# Altium footprint library TRANS_ETH.PcbLib: 7 footprints
Each footprint in its own frame and in the unit in brackets; x right, y up, seen from the top. Pads: shape width x height; smd on the part's side, far side on the other; paste and mask are expansions set on the pad; w line width, h text height; cw(c..) or ccw(c..) is an arc to the next point about the centre after c.
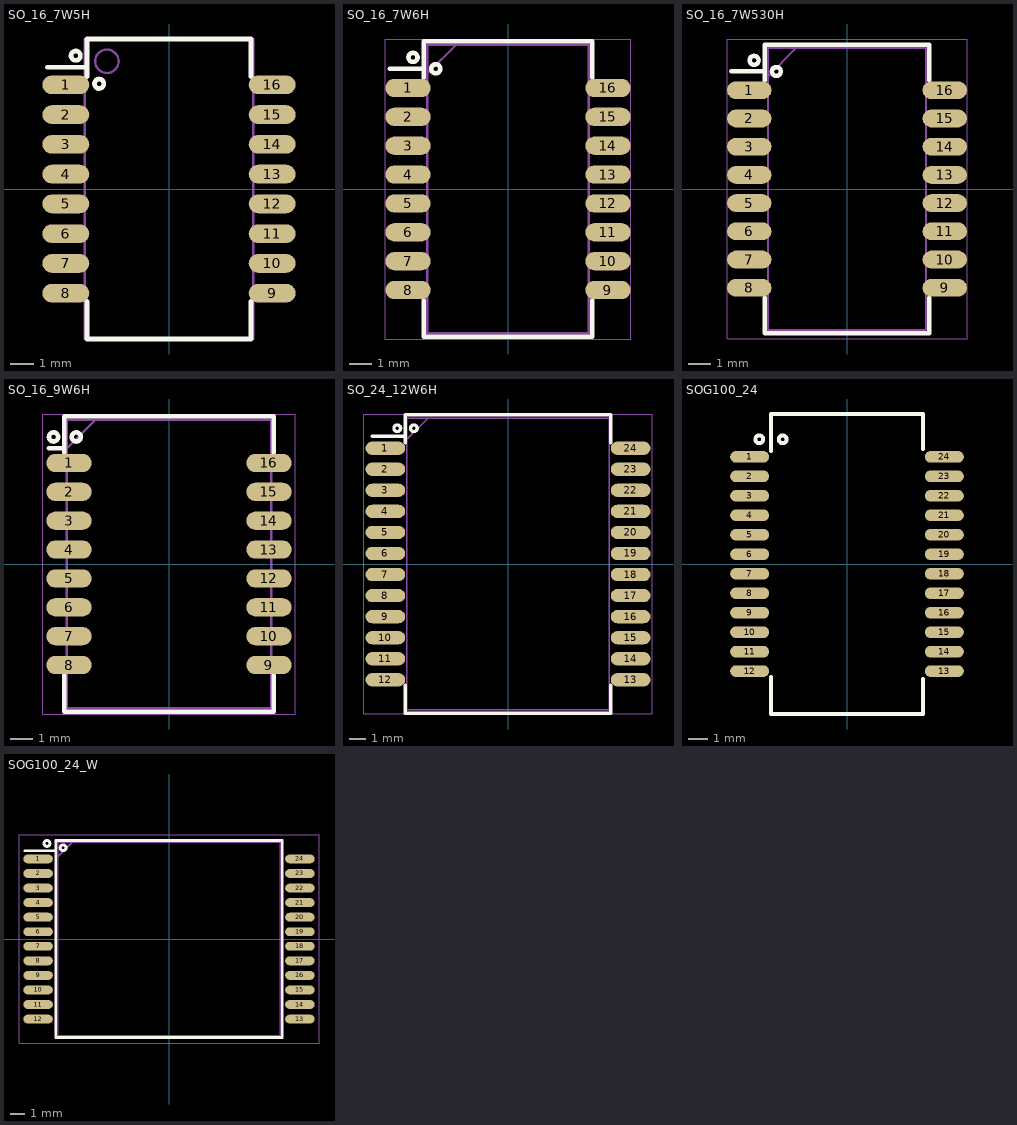
[diagram p0: the footprints below, top view; thin cyan lines are the x and y axes]

## SO_16_7W5H [mm] "16pinsoic (HALO)  pitch: 1.27mm, 12.7X7.1X5mm"
height 5.1
pads (16):
  oval 2x0.8 smd mask+0.1: 1(-4.4,4.445) 2(-4.4,3.175) 3(-4.4,1.905) 4(-4.4,0.635) 5(-4.4,-0.635) 6(-4.4,-1.905) 7(-4.4,-3.175) 8(-4.4,-4.445) 9(4.4,-4.445) 10(4.4,-3.175) 11(4.4,-1.905) 12(4.4,-0.635) 13(4.4,0.635) 14(4.4,1.905) 15(4.4,3.175) 16(4.4,4.445)
Top Overlay:
  circle w0.2: c-3.98,5.69 r0.2
  circle w0.2: c-2.98,4.49 r0.2
  lines w0.2: -5.2,5.2 -3.5,5.2 ; -3.5,-4.8 -3.5,-6.4 3.5,-6.4 3.5,-4.8 ; -3.5,4.8 -3.5,6.4 3.5,6.4 3.5,4.8
Mechanical 13:
  circle w0.1: c-2.65,5.45 r0.5
  lines w0.1: -3.6,-6.4 3.6,-6.4 3.6,6.4 -3.6,6.4 -3.6,-6.4
3D body "User Library-Halo_SMD10base-T Module.step": height 5.04, standoff 0, extent -4.754,-6.35 4.763,6.35

## SO_16_7W6H [mm] "Transformer signal, pitch: 1.27mm, 12.7X7.2X6mm"
height 6
pads (16):
  oval 2x0.8 smd mask+0.1: 1(-4.4,4.445) 2(-4.4,3.175) 3(-4.4,1.905) 4(-4.4,0.635) 5(-4.4,-0.635) 6(-4.4,-1.905) 7(-4.4,-3.175) 8(-4.4,-4.445) 9(4.4,-4.445) 10(4.4,-3.175) 11(4.4,-1.905) 12(4.4,-0.635) 13(4.4,0.635) 14(4.4,1.905) 15(4.4,3.175) 16(4.4,4.445)
Top Overlay:
  circle w0.2: c-4.18,5.79 r0.2
  circle w0.2: c-3.18,5.29 r0.2
  lines w0.2: -5.2,5.3 -3.7,5.3 ; -3.7,-4.9 -3.7,-6.5 3.7,-6.5 3.7,-4.9 ; -3.7,4.9 -3.7,6.5 3.7,6.5 3.7,4.9
Mechanical 15:
  lines w0.1: -3.55,5.08 -2.28,6.35 ; -3.55,-6.35 3.55,-6.35 3.55,6.35 -3.55,6.35 -3.55,-6.35
Mechanical 20:
  lines w0.05: -5.4,-6.6 5.4,-6.6 5.4,6.6 -5.4,6.6 -5.4,-6.6
3D body "HX2326NL_3D.STEP": height 5.91, standoff -0.04, extent -4.762,-6.35 4.763,6.35

## SO_16_7W530H [mm] "Transformer signal, pitch: 1.27mm, 12.7X7X5.3mm"
height 5.3
pads (16):
  oval 2x0.8 smd mask+0.1: 1(-4.4,4.445) 2(-4.4,3.175) 3(-4.4,1.905) 4(-4.4,0.635) 5(-4.4,-0.635) 6(-4.4,-1.905) 7(-4.4,-3.175) 8(-4.4,-4.445) 9(4.4,-4.445) 10(4.4,-3.175) 11(4.4,-1.905) 12(4.4,-0.635) 13(4.4,0.635) 14(4.4,1.905) 15(4.4,3.175) 16(4.4,4.445)
Top Overlay:
  circle w0.2: c-4.18,5.79 r0.2
  circle w0.2: c-3.18,5.29 r0.2
  lines w0.2: -5.2,5.3 -3.7,5.3 ; -3.7,-4.9 -3.7,-6.5 3.7,-6.5 3.7,-4.9 ; -3.7,4.9 -3.7,6.5 3.7,6.5 3.7,4.9
Mechanical 15:
  lines w0.1: -3.55,5.08 -2.28,6.35 ; -3.55,-6.35 3.55,-6.35 3.55,6.35 -3.55,6.35 -3.55,-6.35
Mechanical 20:
  lines w0.05: -5.4,-6.75 5.4,-6.75 5.4,6.75 -5.4,6.75 -5.4,-6.75
3D body "749010013.stp": height 5.3, standoff 0, extent -4.7,-6.5 4.7,6.5

## SO_16_9W6H [mm] "Transformer signal, pitch: 1.27mm, 12.7X9X6mm"
height 6
pads (16):
  oval 2x0.8 smd mask+0.1: 1(-4.4,4.445) 2(-4.4,3.175) 3(-4.4,1.905) 4(-4.4,0.635) 5(-4.4,-0.635) 6(-4.4,-1.905) 7(-4.4,-3.175) 8(-4.4,-4.445) 9(4.4,-4.445) 10(4.4,-3.175) 11(4.4,-1.905) 12(4.4,-0.635) 13(4.4,0.635) 14(4.4,1.905) 15(4.4,3.175) 16(4.4,4.445)
Top Overlay:
  circle w0.2: c-5.08,5.59 r0.2
  circle w0.2: c-4.08,5.59 r0.2
  lines w0.2: -5.3,5.1 -4.6,5.1 ; -4.6,-4.9 -4.6,-6.5 4.6,-6.5 4.6,-4.9 ; -4.6,4.9 -4.6,6.5 4.6,6.5 4.6,4.9
Mechanical 15:
  lines w0.1: -4.5,5.08 -3.23,6.35 ; -4.5,-6.35 -4.5,6.35 4.5,6.35 4.5,-6.35 -4.5,-6.35
Mechanical 20:
  lines w0.05: -5.55,-6.6 -5.55,6.6 5.55,6.6 5.55,-6.6 -5.55,-6.6
3D body "HX2326FNL_3D.STEP": height 5.97, standoff -0.02, extent -4.825,-6.35 4.825,6.35

## SO_24_12W6H [mm] "Transformer signal, pitch: 1.27mm, 17.6X12.2X6mm"
height 6
pads (24):
  oval 2.4x0.8 smd mask+0.1: 1(-7.4,6.985) 2(-7.4,5.715) 3(-7.4,4.445) 4(-7.4,3.175) 5(-7.4,1.905) 6(-7.4,0.635) 7(-7.4,-0.635) 8(-7.4,-1.905) 9(-7.4,-3.175) 10(-7.4,-4.445) 11(-7.4,-5.715) 12(-7.4,-6.985) 13(7.4,-6.985) 14(7.4,-5.715) 15(7.4,-4.445) 16(7.4,-3.175) 17(7.4,-1.905) 18(7.4,-0.635) 19(7.4,0.635) 20(7.4,1.905) 21(7.4,3.175) 22(7.4,4.445) 23(7.4,5.715) 24(7.4,6.985)
Top Overlay:
  circle w0.2: c-6.68,8.19 r0.2
  circle w0.2: c-5.68,8.19 r0.2
  lines w0.2: -8.2,7.7 -6.3,7.7 ; -6.2,-7.3 -6.2,-9 6.2,-9 6.2,-7.3 ; -6.2,7.3 -6.2,9 6.2,9 6.2,7.3
Mechanical 15:
  lines w0.1: -6.1,7.518 -4.83,8.788 ; -6.1,-8.788 6.1,-8.788 6.1,8.788 -6.1,8.788 -6.1,-8.788
Mechanical 20:
  lines w0.05: -8.7,-9.05 8.7,-9.05 8.7,9.05 -8.7,9.05 -8.7,-9.05
3D body "SM51589PEL.stp": height 6, standoff 0, extent -8,-8.787 8,8.788

## SOG100_24 [mm] "ETHERNET TRANSFORMER, 15.24X10.2mm, 1mm pitch,HX5084NL"
pads (24):
  oval 2x0.6 smd mask+0.075: 1(-5,5.5) 2(-5,4.5) 3(-5,3.5) 4(-5,2.5) 5(-5,1.5) 6(-5,0.5) 7(-5,-0.5) 8(-5,-1.5) 9(-5,-2.5) 10(-5,-3.5) 11(-5,-4.5) 12(-5,-5.5) 13(5,-5.5) 14(5,-4.5) 15(5,-3.5) 16(5,-2.5) 17(5,-1.5) 18(5,-0.5) 19(5,0.5) 20(5,1.5) 21(5,2.5) 22(5,3.5) 23(5,4.5) 24(5,5.5)
Top Overlay:
  circle w0.2: c-3.3,6.4 r0.2
  circle w0.2: c-4.5,6.4 r0.2
  lines w0.2: -3.9,-5.8 -3.9,-7.7 3.9,-7.7 3.9,-5.9 ; -3.9,5.8 -3.9,7.7 3.9,7.7 3.9,5.9
3D body "HX5084NL_3D.STEP": height 4.14, standoff 0, extent -5.26,-7.555 5.3,7.555

## SOG100_24_W [mm] "Transformer signal, pitch: 1.27mm, 13.2X15.2X6mm"
height 6
pads (24):
  oval 2x0.6 smd mask+0.1: 1(-8.9,5.445) 2(-8.9,4.455) 3(-8.9,3.465) 4(-8.9,2.475) 5(-8.9,1.485) 6(-8.9,0.495) 7(-8.9,-0.495) 8(-8.9,-1.485) 9(-8.9,-2.475) 10(-8.9,-3.465) 11(-8.9,-4.455) 12(-8.9,-5.445) 13(8.9,-5.445) 14(8.9,-4.455) 15(8.9,-3.465) 16(8.9,-2.475) 17(8.9,-1.485) 18(8.9,-0.495) 19(8.9,0.495) 20(8.9,1.485) 21(8.9,2.475) 22(8.9,3.465) 23(8.9,4.455) 24(8.9,5.445)
Top Overlay:
  circle w0.2: c-8.3,6.5 r0.2
  circle w0.2: c-7.2,6.2 r0.2
  lines w0.2: -9.8,6 -7.7,6 ; -7.7,-6.7 -7.7,6.7 7.7,6.7 7.7,-6.7 -7.7,-6.7
Mechanical 15:
  lines w0.1: -7.555,5.59 -6.565,6.58 ; -7.555,-6.58 -7.555,6.58 7.555,6.58 7.555,-6.58 -7.555,-6.58
Mechanical 20:
  lines w0.05: -10.2,-7.08 -10.2,7.08 10.2,7.08 10.2,-7.08 -10.2,-7.08
3D body "HX5008NLT.stp": height 6.12, standoff 0, extent -9.335,-6.58 9.335,6.58